# Altium footprint library FootPrintLib_5.PCBLIB: 254 footprints (part 14 of 16)
Each footprint in its own frame and in the unit in brackets; x right, y up, seen from the top. Pads: shape width x height; smd on the part's side, far side on the other; paste and mask are expansions set on the pad; w line width, h text height; cw(c..) or ccw(c..) is an arc to the next point about the centre after c.
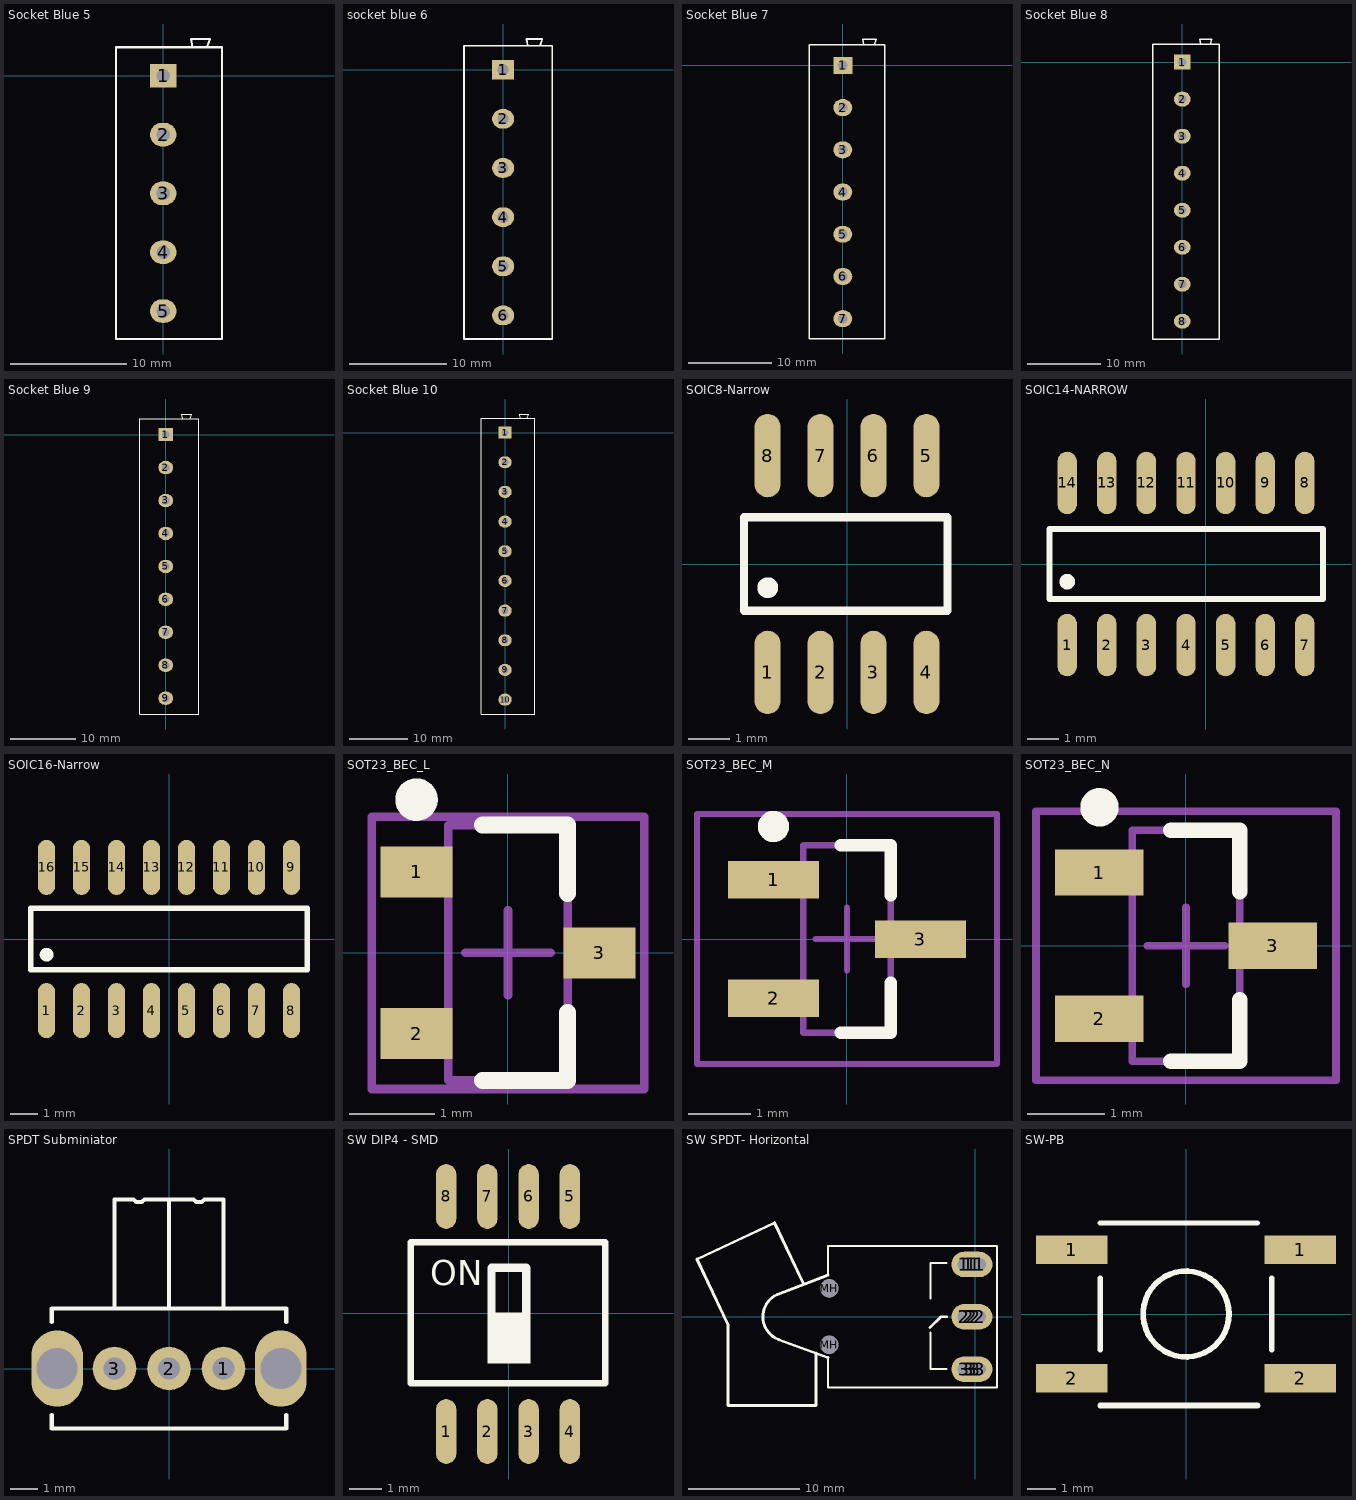
[diagram p13: the footprints below, top view; thin cyan lines are the x and y axes]

## Socket Blue 5 [mil]
pads (5):
  rect 90x80 hole 46: 1(0,0)
  oval 90x80 hole 46: 2(0,-200) 3(0,-400) 4(0,-600) 5(0,-800)
Top Overlay:
  lines w7: 100,97 95.33,125 159.33,125 150,97 ; -160,-895 -160,97 200,97 200,-895 -160,-895
3D body "Socket Blue_5Pin.STEP": height 493, standoff -263.18, extent -158.5,-897.91 198.5,125

## socket blue 6 [mil]
pads (6):
  rect 90x80 hole 46: 1(0,0)
  oval 90x80 hole 46: 2(0,-200) 3(0,-400) 4(0,-600) 5(0,-800) 6(0,-1000)
Top Overlay:
  lines w7: -158,97 -160,97 ; 100,97 95.33,125 159.33,125 150,97 ; -160,97 -159,97 -159,-1096 200,-1096 200,97 -160,97
3D body "Socket Blue_6Pin.STEP": height 493, standoff -263.18, extent -159,-1096 198,126.91

## Socket Blue 7 [mil]
pads (7):
  rect 90x80 hole 46: 1(0,0)
  oval 90x80 hole 46: 2(0,-200) 3(0,-400) 4(0,-600) 5(0,-800) 6(0,-1000) 7(0,-1200)
Top Overlay:
  lines w7: -160,97 200,97 200,-1296.28 -159.15,-1296.28 -159.15,97 ; 100,97 95.33,125 159.33,125 150,97
3D body "Socket Blue_7Pin.STEP": height 493, standoff -263.18, extent -159.15,-1296.28 197.85,126.64

## Socket Blue 8 [mil]
pads (8):
  rect 90x80 hole 46: 1(0,0)
  oval 90x80 hole 46: 2(0,-200) 3(0,-400) 4(0,-600) 5(0,-800) 6(0,-1000) 7(0,-1200) 8(0,-1400)
Top Overlay:
  lines w7: -159.5,97 -159.5,-1495.91 200,-1495.91 200,97 -160,97 -158,97 ; 100,97 95.33,125 159.33,125 150,97
3D body "Socket Blue_8Pin.STEP": height 493, standoff -263.18, extent -159.5,-1495.91 197.5,127

## Socket Blue 9 [mil]
pads (9):
  rect 90x80 hole 46: 1(0,0)
  oval 90x80 hole 46: 2(0,-200) 3(0,-400) 4(0,-600) 5(0,-800) 6(0,-1000) 7(0,-1200) 8(0,-1400) 9(0,-1600)
Top Overlay:
  lines w7: 100,97 95.33,125 159.33,125 150,97 ; -160,97 200,97 200,-1696 -158,-1696 -158,97 -160,97
3D body "Socket Blue_9Pin.STEP": height 493, standoff -263.18, extent -158,-1696 199,126.91

## Socket Blue 10 [mil]
pads (10):
  rect 90x80 hole 46: 1(0,0)
  oval 90x80 hole 46: 2(0,-200) 3(0,-400) 4(0,-600) 5(0,-800) 6(0,-1000) 7(0,-1200) 8(0,-1400) 9(0,-1600) 10(0,-1800)
Top Overlay:
  lines w7: 100,97 95.33,125 159.33,125 150,97 ; -160,-1897 200,-1897 200,97 -160,97 -160,-1897
3D body "Socket Blue_10Pin.STEP": height 493, standoff -263.18, extent -160.5,-1896 196.5,127

## SOIC8-Narrow [mm] "SOIC, 8-Leads, Body 3.0x3.0mm (max), Pitch 1.27mm, IPC Medium Density"
height 1.11
pads (8):
  oval 0.625x2 smd: 1(-1.905,-2.6) 2(-0.635,-2.6) 3(0.635,-2.6) 4(1.905,-2.6) 5(1.905,2.6) 6(0.635,2.6) 7(-0.635,2.6) 8(-1.905,2.6)
Top Overlay:
  circle w0.25: c-1.903,-0.568 r0.125
  lines w0.2: -2.47,-1.125 -2.47,1.125 2.413,1.125 2.413,-1.125 -2.47,-1.125
3D body "SO8_narrow.step": height 1.7, standoff 0, extent -2.413,-3.099 2.413,3.099

## SOIC14-NARROW [mm]
pads (14):
  oval 0.625x2 smd: 1(-4.445,-2.6) 2(-3.175,-2.6) 3(-1.905,-2.6) 4(-0.635,-2.6) 5(0.635,-2.6) 6(1.905,-2.6) 7(3.175,-2.6) 8(3.175,2.6) 9(1.905,2.6) 10(0.635,2.6) 11(-0.635,2.6) 12(-1.905,2.6) 13(-3.175,2.6) 14(-4.445,2.6)
Top Overlay:
  circle w0.25: c-4.443,-0.568 r0.125
  lines w0.2: -5.01,-1.125 -5.01,1.125 3.759,1.125 3.759,-1.125 -5.01,-1.125
3D body "SO14_Narrow.step": height 1.7, standoff 0, extent -4.953,-3.032 3.683,3.166

## SOIC16-Narrow [mm]
pads (16):
  oval 0.625x2 smd: 1(-4.445,-2.6) 2(-3.175,-2.6) 3(-1.905,-2.6) 4(-0.635,-2.6) 5(0.635,-2.6) 6(1.905,-2.6) 7(3.175,-2.6) 8(4.445,-2.6) 9(4.445,2.6) 10(3.175,2.6) 11(1.905,2.6) 12(0.635,2.6) 13(-0.635,2.6) 14(-1.905,2.6) 15(-3.175,2.6) 16(-4.445,2.6)
Top Overlay:
  circle w0.25: c-4.443,-0.568 r0.125
  lines w0.2: -5.01,-1.125 -5.01,1.125 5.01,1.125 5.01,-1.125 -5.01,-1.125
3D body "SO16_NARROW.step": height 1.7, standoff 0, extent -4.953,-3.032 4.953,3.166

## SOT23_BEC_L [mm] "SOT23, 3-Leads, Body 2.9x1.3mm, Pitch 0.95mm, Lead Span 2.4mm, IPC High Density"
height 1.14
pads (3):
  rect 0.85x0.6 smd: 1(-1.075,0.95) 2(-1.075,-0.95) 3(1.075,0)
Top Overlay:
  circle w0.25: c-1.075,1.8 r0.125
  lines w0.2: -0.3,-1.5 0.7,-1.5 0.7,-0.7 ; -0.3,1.5 0.7,1.5 0.7,0.7
Mechanical 13:
  lines w0.1: -0.7,-1.5 0.7,-1.5 0.7,1.5 -0.7,1.5 -0.7,-1.5
Mechanical 15:
  lines w0.1: -0.5,0 0.5,0 ; 0,-0.5 0,0.5 ; -1.6,-1.6 1.6,-1.6 1.6,1.6 -1.6,1.6 -1.6,-1.6
3D body "User Library-N-MOS_BSS123_SOT23.STEP": height 1, standoff 0, extent -1.225,-1.45 1.075,1.45

## SOT23_BEC_M [mm] "SOT23, 3-Leads, Body 2.9x1.3mm, Pitch 0.95mm, Lead Span 2.4mm, IPC Low Density"
height 1.14
pads (3):
  rect 1.45x0.6 smd: 1(-1.175,0.95) 2(-1.175,-0.95) 3(1.175,0)
Top Overlay:
  circle w0.25: c-1.175,1.8 r0.125
  lines w0.2: -0.1,-1.5 0.7,-1.5 0.7,-0.7 ; -0.1,1.5 0.7,1.5 0.7,0.7
Mechanical 13:
  lines w0.1: -0.7,-1.5 0.7,-1.5 0.7,1.5 -0.7,1.5 -0.7,-1.5
Mechanical 15:
  lines w0.1: -0.5,0 0.5,0 ; 0,-0.5 0,0.5 ; -2.4,-2 2.4,-2 2.4,2 -2.4,2 -2.4,-2
3D body "User Library-N-MOS_BSS123_SOT23.STEP": height 1, standoff 0, extent -1.225,-1.45 1.075,1.45

## SOT23_BEC_N [mm] "SOT23, 3-Leads, Body 2.9x1.3mm, Pitch 0.95mm, Lead Span 2.4mm, IPC Medium Density"
height 1.14
pads (3):
  rect 1.15x0.6 smd: 1(-1.125,0.95) 2(-1.125,-0.95) 3(1.125,0)
Top Overlay:
  circle w0.25: c-1.125,1.8 r0.125
  lines w0.2: -0.2,-1.5 0.7,-1.5 0.7,-0.7 ; -0.2,1.5 0.7,1.5 0.7,0.7
Mechanical 13:
  lines w0.1: -0.7,-1.5 0.7,-1.5 0.7,1.5 -0.7,1.5 -0.7,-1.5
Mechanical 15:
  lines w0.1: -0.5,0 0.5,0 ; 0,-0.5 0,0.5 ; -1.95,-1.75 1.95,-1.75 1.95,1.75 -1.95,1.75 -1.95,-1.75
3D body "User Library-N-MOS_BSS123_SOT23.STEP": height 1, standoff 0, extent -1.225,-1.45 1.075,1.45

## SPDT Subminiator [mm] "Subminiator SPDT switch"
pads (5):
  round 1.6 hole 0.8: 1(2,0) 2(0,0) 3(-2,0)
  oval 1.9x2.8 hole 1.5: ""(-4.1,0) ""(4.1,0)
Top Overlay:
  lines w0.15: -4.3,-1.7 -4.3,-2.2 4.3,-2.2 4.3,-1.7 ; -4.3,1.7 -4.3,2.2 4.3,2.2 4.3,1.7 ; -2,2.2 -2,6.2 ; 0,2.2 0,6.2 ; 2,2.2 2,6.2 1.3,6.2 1.2,6.1 1,6.1 0.9,6.2 0,6.2 ; -2,6.2 -2,6.2 ; -2,6.2 -1.3,6.2 -1.2,6.1 -1,6.1 -0.9,6.2 0,6.2 ; 0,6.2 0,6.2 ; 0,6.2 0,6.2
3D body "User Library-CK_Slide.step": height 4.7, standoff -2.79, extent -4.311,-2.28 4.3,6.093

## SW DIP4 - SMD [mm]
pads (8):
  oval 0.625x2 smd: 1(-1.93,-3.641) 2(-0.66,-3.641) 3(0.61,-3.641) 4(1.88,-3.641) 5(1.88,3.591) 6(0.61,3.591) 7(-0.66,3.591) 8(-1.93,3.591)
Top Overlay:
  rectangle: -0.66,-1.549 0.66,0.025
  lines w0.2: -3.023,-2.159 -3.023,2.184 2.972,2.184 2.972,-2.159 -3.023,-2.159
  lines w0.254: -0.533,0.025 -0.533,1.397 0.533,1.397 0.533,0.025
  text "ON" at -2.413,0.864 h0.76
3D body "User Library-TDA04.STEP": height 2.35, standoff 0, extent -3.106,-4.066 3.104,4.067

## SW SPDT- Horizontal [mil]
pads (17):
  round 90 hole 45: 1(-39.37,185.04) 1(-23.62,185.04) 1(0,185.04) 1(15.75,185.04) 2(-39.37,0) 2(-23.62,0) 2(0,0) 2(15.75,0) 3(-39.37,-185.04) 3(-23.62,-185.04) 3(0,-185.04) 3(15.75,-185.04)
  oval 140x90 hole 45: 1(-11.81,185) 2(-11.81,0) 3(-11.81,-185)
  round 63 hole 65: MH(-515.75,-98.43) MH(-515.75,100.36)
Top Overlay:
  lines w7: -519.68,-144.17 -519.68,-250 76.99,-250 76.99,250 -519.68,250 -519.68,147.73 ; -158.81,-55 -158.81,-185 -101.81,-185 ; -158.81,65 -158.81,190 -101.81,190
  lines w10: -700.13,78.6 ccw(c-664.37,0.46) -696.24,-79.34 ; -698.82,78.74 -519.68,147.73 ; -693.95,-80.52 -519.68,-144.17 ; -607,119 -709,333 -983,204 -873,-29 -873,-313 -562,-313 -562,-128 ; -160,-38 -121.81,0 -101.81,0
3D body "SW3dPS-300-sp1-j1-blk.STEP": height 379.35, standoff -125.15, extent -986.44,-312.76 17.06,336.12

## SW-PB [mm]
pads (4):
  rect 2.5x1 smd: 1(-3.992,2.25) 1(3.992,2.25) 2(-3.992,-2.25) 2(3.992,-2.25)
Top Overlay:
  circle w0.2: c0,0 r1.5
  lines w0.178: -2.997,3.175 2.503,3.175
  lines w0.2: -3,-1.25 -3,1.25 ; -2.997,-3.2 2.503,-3.2 ; 3,-1.25 3,1.25
3D body "SW3dPS-switch.STEP": height 5, standoff 0, extent -4.5,-3 4.5,3